# Altium integrated library NSC MiscPower.IntLib: 1417 symbols (part 23 of 39)
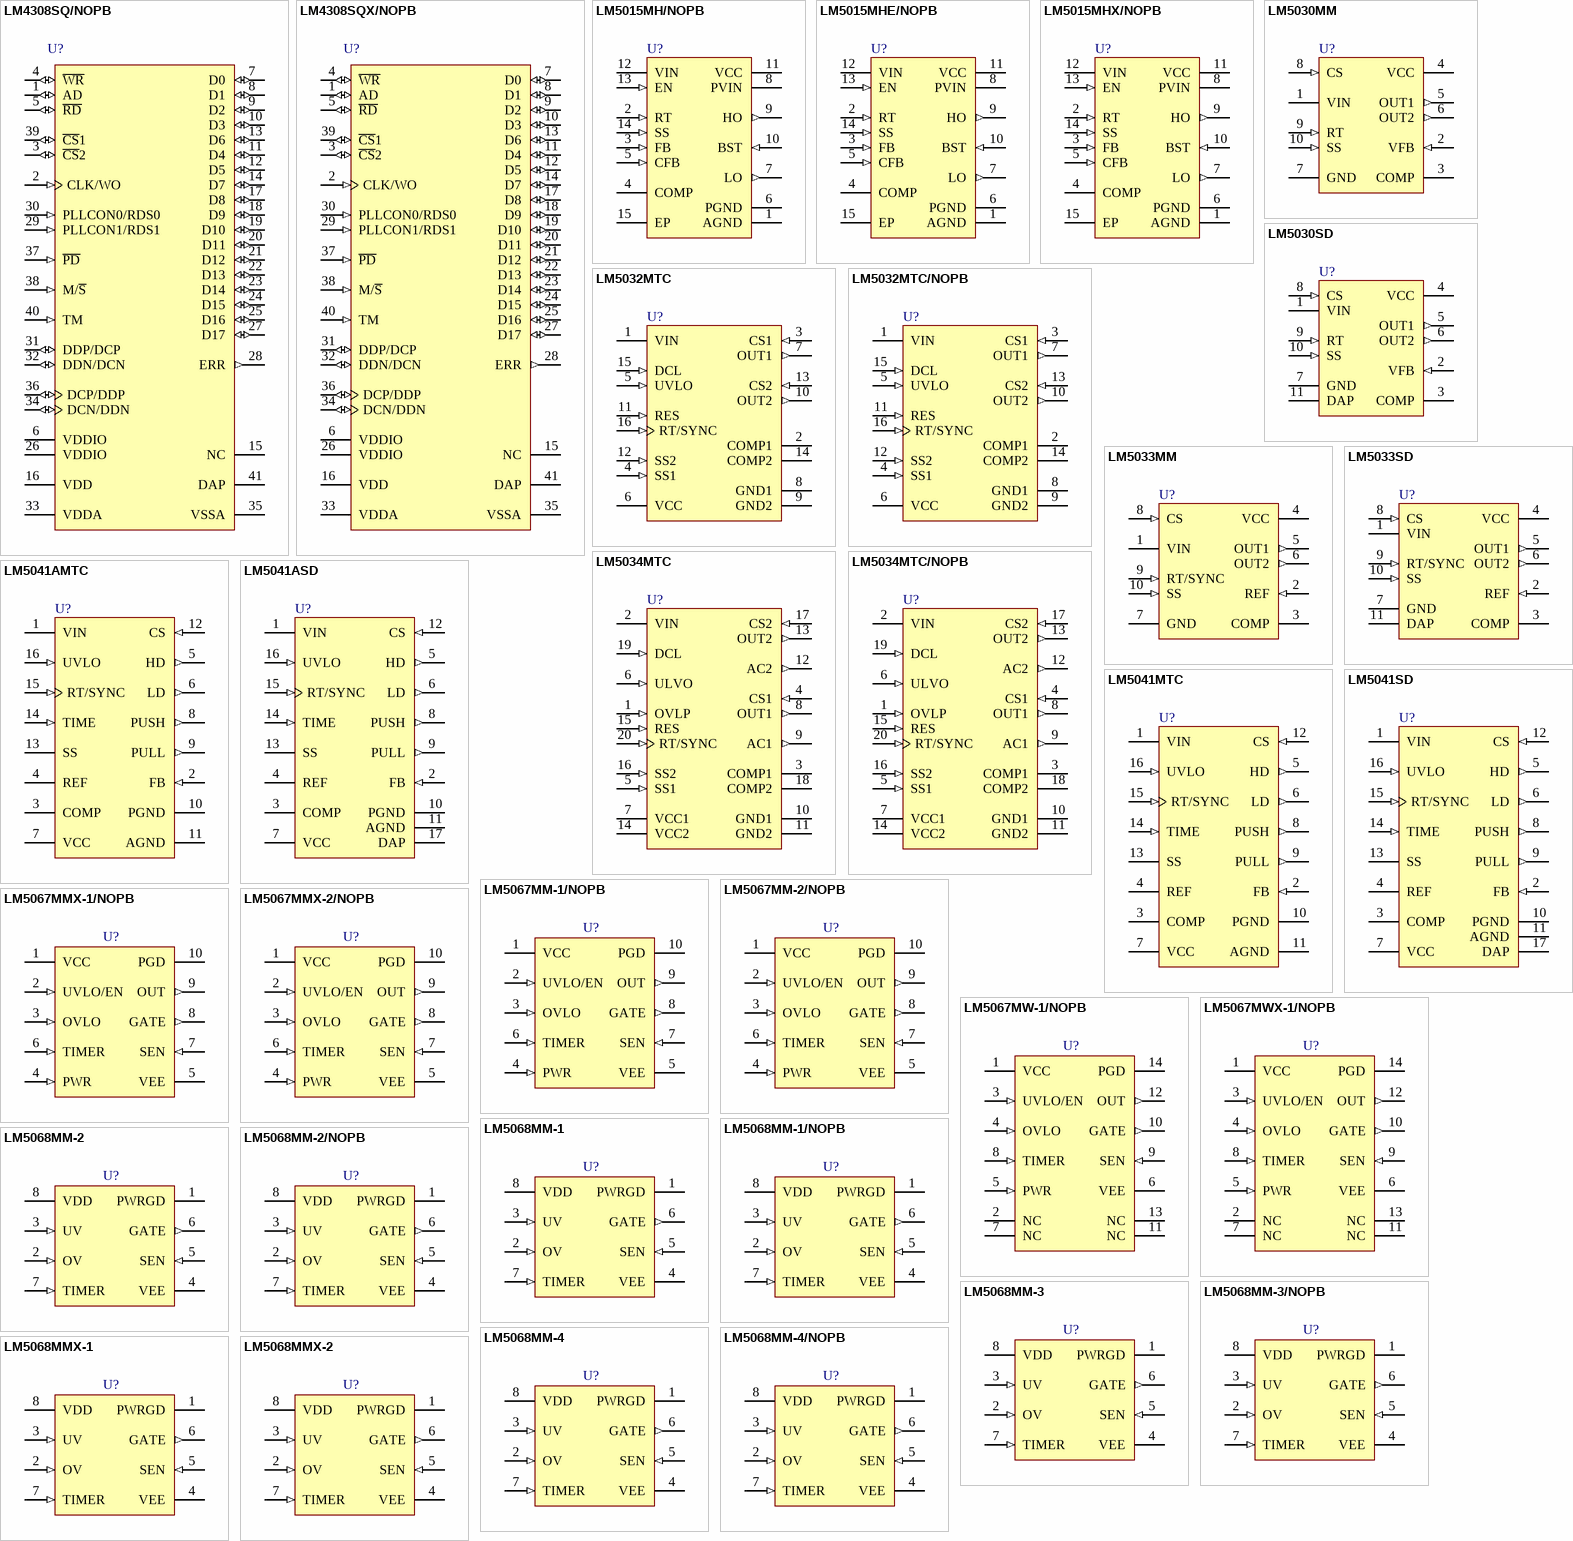
[diagram p73: symbols LM4308SQ/NOPB to LM5068MMX-2]

## LM5068MM-2
designator U?
Negative Voltage Hot Swap Controller, 8-pin MSOP; PartNumber: LM5068MM-2; Manufacturer: National Semiconductor; PackageTopMarking: ZXTT*S67B; PowerWise: N; CompType: MiscPower; Published: 4-Dec-2008; DatasheetVersion: Dec-2004; PackageVersion: revF, Apr-2008; PackageReference: MUA08A; Publisher: Altium Limited; PackageDescription: MINI SOIC, .118 x .118 x .034in, 8 Lead, .0256in Pitch; Supplier 1: Farnell; Supplier Part Number 1: 8181764; RoHS: N; PinCount: 8; Code_JEDEC: MO-187-AA; ComponentLink1Description: LM5068 Datasheet; ComponentLink1URL: http://www.national.com/ds/LM/LM5068.pdf; ComponentLink2Description: LM5068 Web Page; ComponentLink2URL: http://www.national.com/pf/LM/LM5068.html; ComponentLink3Description: MUA08A Package Page; ComponentLink3URL: http://www.national.com/packaging/folders/mua08a.html
footprint MUA08A_N (TSOP, 8-Leads, Body 3x3mm, Pitch 0.65mm, IPC Medium Density)
footprint MUA08A_L (TSOP, 8-Leads, Body 3x3mm, Pitch 0.65mm, IPC High Density)
footprint MUA08A_M (TSOP, 8-Leads, Body 3x3mm, Pitch 0.65mm, IPC Low Density)
pins: 1 PWRGD (oc), 2 OV (in), 3 UV (in), 4 VEE (power), 5 SEN (in), 6 GATE (out), 7 TIMER (in), 8 VDD (power)

## LM5068MM-2/NOPB
designator U?
Negative Voltage Hot Swap Controller, 8-pin MSOP, Pb-Free; PartNumber: LM5068MM-2/NOPB; Manufacturer: National Semiconductor; PackageTopMarking: ZXTT*S67B; PowerWise: N; CompType: MiscPower; Published: 1-Mar-2010; DatasheetVersion: Dec-2004; PackageVersion: revF, Apr-2008; PackageReference: MUA08A; Publisher: Altium Limited; PackageDescription: MINI SOIC, .118 x .118 x .034in, 8 Lead, .0256in Pitch; Supplier 1: Digi-Key; Supplier Part Number 1: LM5068MM-2TR-ND; Supplier 2: Digi-Key; Supplier Part Number 2: LM5068MM-2CT-ND; Supplier 3: Digi-Key; Supplier Part Number 3: LM5068MM-2DKR-ND; RoHS: Y; PinCount: 8; Code_JEDEC: MO-187-AA; ComponentLink1Description: LM5068 Datasheet; ComponentLink1URL: http://www.national.com/ds/LM/LM5068.pdf; ComponentLink2Description: LM5068 Web Page; ComponentLink2URL: http://www.national.com/pf/LM/LM5068.html; ComponentLink3Description: MUA08A Package Page; ComponentLink3URL: http://www.national.com/packaging/folders/mua08a.html
footprint MUA08A_N (TSOP, 8-Leads, Body 3x3mm, Pitch 0.65mm, IPC Medium Density)
footprint MUA08A_L (TSOP, 8-Leads, Body 3x3mm, Pitch 0.65mm, IPC High Density)
footprint MUA08A_M (TSOP, 8-Leads, Body 3x3mm, Pitch 0.65mm, IPC Low Density)
pins: 1 PWRGD (oc), 2 OV (in), 3 UV (in), 4 VEE (power), 5 SEN (in), 6 GATE (out), 7 TIMER (in), 8 VDD (power)

## LM5068MM-3
designator U?
Negative Voltage Hot Swap Controller, 8-pin MSOP; PartNumber: LM5068MM-3; Manufacturer: National Semiconductor; PackageTopMarking: ZXTT*S68B; PowerWise: N; CompType: MiscPower; Published: 4-Dec-2008; DatasheetVersion: Dec-2004; PackageVersion: revF, Apr-2008; PackageReference: MUA08A; Publisher: Altium Limited; PackageDescription: MINI SOIC, .118 x .118 x .034in, 8 Lead, .0256in Pitch; Supplier 1: Farnell; Supplier Part Number 1: 1008261; RoHS: N; PinCount: 8; Code_JEDEC: MO-187-AA; ComponentLink1Description: LM5068 Datasheet; ComponentLink1URL: http://www.national.com/ds/LM/LM5068.pdf; ComponentLink2Description: LM5068 Web Page; ComponentLink2URL: http://www.national.com/pf/LM/LM5068.html; ComponentLink3Description: MUA08A Package Page; ComponentLink3URL: http://www.national.com/packaging/folders/mua08a.html
footprint MUA08A_N (TSOP, 8-Leads, Body 3x3mm, Pitch 0.65mm, IPC Medium Density)
footprint MUA08A_L (TSOP, 8-Leads, Body 3x3mm, Pitch 0.65mm, IPC High Density)
footprint MUA08A_M (TSOP, 8-Leads, Body 3x3mm, Pitch 0.65mm, IPC Low Density)
pins: 1 PWRGD (oc), 2 OV (in), 3 UV (in), 4 VEE (power), 5 SEN (in), 6 GATE (out), 7 TIMER (in), 8 VDD (power)

## LM5068MM-3/NOPB
designator U?
Negative Voltage Hot Swap Controller, 8-pin MSOP, Pb-Free; PartNumber: LM5068MM-3/NOPB; Manufacturer: National Semiconductor; PackageTopMarking: ZXTT*S68B; PowerWise: N; CompType: MiscPower; Published: 1-Mar-2010; DatasheetVersion: Dec-2004; PackageVersion: revF, Apr-2008; PackageReference: MUA08A; Publisher: Altium Limited; PackageDescription: MINI SOIC, .118 x .118 x .034in, 8 Lead, .0256in Pitch; Supplier 1: Digi-Key; Supplier Part Number 1: LM5068MM-3TR-ND; Supplier 2: Digi-Key; Supplier Part Number 2: LM5068MM-3CT-ND; Supplier 3: Digi-Key; Supplier Part Number 3: LM5068MM-3DKR-ND; RoHS: Y; PinCount: 8; Code_JEDEC: MO-187-AA; ComponentLink1Description: LM5068 Datasheet; ComponentLink1URL: http://www.national.com/ds/LM/LM5068.pdf; ComponentLink2Description: LM5068 Web Page; ComponentLink2URL: http://www.national.com/pf/LM/LM5068.html; ComponentLink3Description: MUA08A Package Page; ComponentLink3URL: http://www.national.com/packaging/folders/mua08a.html
footprint MUA08A_N (TSOP, 8-Leads, Body 3x3mm, Pitch 0.65mm, IPC Medium Density)
footprint MUA08A_L (TSOP, 8-Leads, Body 3x3mm, Pitch 0.65mm, IPC High Density)
footprint MUA08A_M (TSOP, 8-Leads, Body 3x3mm, Pitch 0.65mm, IPC Low Density)
pins: 1 PWRGD (oc), 2 OV (in), 3 UV (in), 4 VEE (power), 5 SEN (in), 6 GATE (out), 7 TIMER (in), 8 VDD (power)

## LM5068MM-4
designator U?
Negative Voltage Hot Swap Controller, 8-pin MSOP; PartNumber: LM5068MM-4; Manufacturer: National Semiconductor; PackageTopMarking: ZXTT*S69B; PowerWise: N; CompType: MiscPower; Published: 4-Dec-2008; DatasheetVersion: Dec-2004; PackageVersion: revF, Apr-2008; PackageReference: MUA08A; Publisher: Altium Limited; PackageDescription: MINI SOIC, .118 x .118 x .034in, 8 Lead, .0256in Pitch; Supplier 1: Farnell; Supplier Part Number 1: 1008263; RoHS: N; PinCount: 8; Code_JEDEC: MO-187-AA; ComponentLink1Description: LM5068 Datasheet; ComponentLink1URL: http://www.national.com/ds/LM/LM5068.pdf; ComponentLink2Description: LM5068 Web Page; ComponentLink2URL: http://www.national.com/pf/LM/LM5068.html; ComponentLink3Description: MUA08A Package Page; ComponentLink3URL: http://www.national.com/packaging/folders/mua08a.html
footprint MUA08A_N (TSOP, 8-Leads, Body 3x3mm, Pitch 0.65mm, IPC Medium Density)
footprint MUA08A_L (TSOP, 8-Leads, Body 3x3mm, Pitch 0.65mm, IPC High Density)
footprint MUA08A_M (TSOP, 8-Leads, Body 3x3mm, Pitch 0.65mm, IPC Low Density)
pins: 1 PWRGD (oc), 2 OV (in), 3 UV (in), 4 VEE (power), 5 SEN (in), 6 GATE (out), 7 TIMER (in), 8 VDD (power)

## LM5068MM-4/NOPB
designator U?
Negative Voltage Hot Swap Controller, 8-pin MSOP, Pb-Free; PartNumber: LM5068MM-4/NOPB; Manufacturer: National Semiconductor; PackageTopMarking: ZXTT*S69B; PowerWise: N; CompType: MiscPower; Published: 1-Mar-2010; DatasheetVersion: Dec-2004; PackageVersion: revF, Apr-2008; PackageReference: MUA08A; Publisher: Altium Limited; PackageDescription: MINI SOIC, .118 x .118 x .034in, 8 Lead, .0256in Pitch; Supplier 1: Digi-Key; Supplier Part Number 1: LM5068MM-4TR-ND; Supplier 2: Digi-Key; Supplier Part Number 2: LM5068MM-4CT-ND; Supplier 3: Digi-Key; Supplier Part Number 3: LM5068MM-4DKR-ND; RoHS: Y; PinCount: 8; Code_JEDEC: MO-187-AA; ComponentLink1Description: LM5068 Datasheet; ComponentLink1URL: http://www.national.com/ds/LM/LM5068.pdf; ComponentLink2Description: LM5068 Web Page; ComponentLink2URL: http://www.national.com/pf/LM/LM5068.html; ComponentLink3Description: MUA08A Package Page; ComponentLink3URL: http://www.national.com/packaging/folders/mua08a.html
footprint MUA08A_N (TSOP, 8-Leads, Body 3x3mm, Pitch 0.65mm, IPC Medium Density)
footprint MUA08A_L (TSOP, 8-Leads, Body 3x3mm, Pitch 0.65mm, IPC High Density)
footprint MUA08A_M (TSOP, 8-Leads, Body 3x3mm, Pitch 0.65mm, IPC Low Density)
pins: 1 PWRGD (oc), 2 OV (in), 3 UV (in), 4 VEE (power), 5 SEN (in), 6 GATE (out), 7 TIMER (in), 8 VDD (power)

## LM5068MMX-1
designator U?
Negative Voltage Hot Swap Controller, 8-pin MSOP; PartNumber: LM5068MMX-1; Manufacturer: National Semiconductor; PackageTopMarking: ZXTT*S66B; PowerWise: N; CompType: MiscPower; Published: 1-Mar-2010; DatasheetVersion: Dec-2004; PackageVersion: revF, Apr-2008; PackageReference: MUA08A; Publisher: Altium Limited; PackageDescription: MINI SOIC, .118 x .118 x .034in, 8 Lead, .0256in Pitch; RoHS: N; PinCount: 8; Code_JEDEC: MO-187-AA; ComponentLink1Description: LM5068 Datasheet; ComponentLink1URL: http://www.national.com/ds/LM/LM5068.pdf; ComponentLink2Description: LM5068 Web Page; ComponentLink2URL: http://www.national.com/pf/LM/LM5068.html; ComponentLink3Description: MUA08A Package Page; ComponentLink3URL: http://www.national.com/packaging/folders/mua08a.html
footprint MUA08A_N (TSOP, 8-Leads, Body 3x3mm, Pitch 0.65mm, IPC Medium Density)
footprint MUA08A_L (TSOP, 8-Leads, Body 3x3mm, Pitch 0.65mm, IPC High Density)
footprint MUA08A_M (TSOP, 8-Leads, Body 3x3mm, Pitch 0.65mm, IPC Low Density)
pins: 1 PWRGD (oc), 2 OV (in), 3 UV (in), 4 VEE (power), 5 SEN (in), 6 GATE (out), 7 TIMER (in), 8 VDD (power)

## LM5068MMX-2
designator U?
Negative Voltage Hot Swap Controller, 8-pin MSOP; PartNumber: LM5068MMX-2; Manufacturer: National Semiconductor; PackageTopMarking: ZXTT*S67B; PowerWise: N; CompType: MiscPower; Published: 1-Mar-2010; DatasheetVersion: Dec-2004; PackageVersion: revF, Apr-2008; PackageReference: MUA08A; Publisher: Altium Limited; PackageDescription: MINI SOIC, .118 x .118 x .034in, 8 Lead, .0256in Pitch; RoHS: N; PinCount: 8; Code_JEDEC: MO-187-AA; ComponentLink1Description: LM5068 Datasheet; ComponentLink1URL: http://www.national.com/ds/LM/LM5068.pdf; ComponentLink2Description: LM5068 Web Page; ComponentLink2URL: http://www.national.com/pf/LM/LM5068.html; ComponentLink3Description: MUA08A Package Page; ComponentLink3URL: http://www.national.com/packaging/folders/mua08a.html
footprint MUA08A_N (TSOP, 8-Leads, Body 3x3mm, Pitch 0.65mm, IPC Medium Density)
footprint MUA08A_L (TSOP, 8-Leads, Body 3x3mm, Pitch 0.65mm, IPC High Density)
footprint MUA08A_M (TSOP, 8-Leads, Body 3x3mm, Pitch 0.65mm, IPC Low Density)
pins: 1 PWRGD (oc), 2 OV (in), 3 UV (in), 4 VEE (power), 5 SEN (in), 6 GATE (out), 7 TIMER (in), 8 VDD (power)

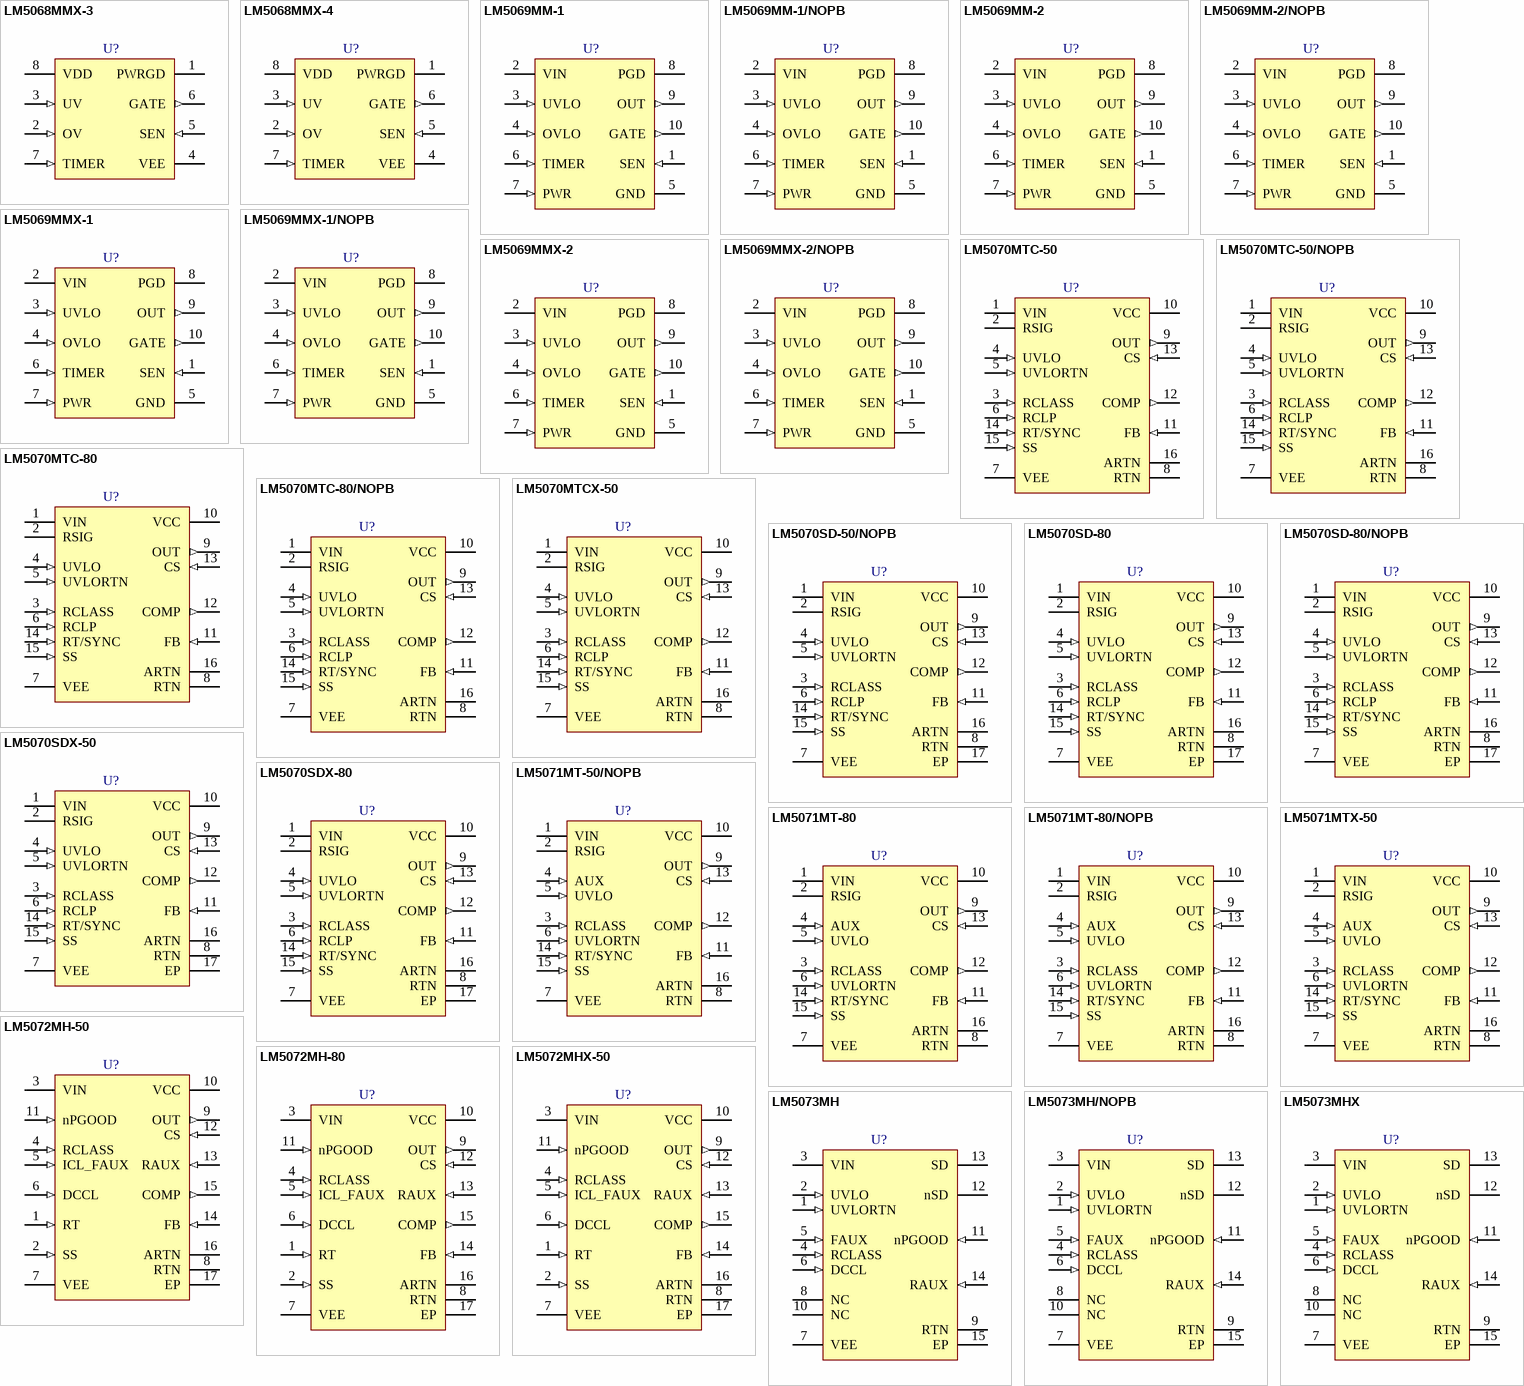
[diagram p25: symbols LM5068MMX-3 to LM5073MHX]

## LM5068MMX-3
designator U?
Negative Voltage Hot Swap Controller, 8-pin MSOP; PartNumber: LM5068MMX-3; Manufacturer: National Semiconductor; PackageTopMarking: ZXTT*S68B; PowerWise: N; CompType: MiscPower; Published: 1-Mar-2010; DatasheetVersion: Dec-2004; PackageVersion: revF, Apr-2008; PackageReference: MUA08A; Publisher: Altium Limited; PackageDescription: MINI SOIC, .118 x .118 x .034in, 8 Lead, .0256in Pitch; RoHS: N; PinCount: 8; Code_JEDEC: MO-187-AA; ComponentLink1Description: LM5068 Datasheet; ComponentLink1URL: http://www.national.com/ds/LM/LM5068.pdf; ComponentLink2Description: LM5068 Web Page; ComponentLink2URL: http://www.national.com/pf/LM/LM5068.html; ComponentLink3Description: MUA08A Package Page; ComponentLink3URL: http://www.national.com/packaging/folders/mua08a.html
footprint MUA08A_N (TSOP, 8-Leads, Body 3x3mm, Pitch 0.65mm, IPC Medium Density)
footprint MUA08A_L (TSOP, 8-Leads, Body 3x3mm, Pitch 0.65mm, IPC High Density)
footprint MUA08A_M (TSOP, 8-Leads, Body 3x3mm, Pitch 0.65mm, IPC Low Density)
pins: 1 PWRGD (oc), 2 OV (in), 3 UV (in), 4 VEE (power), 5 SEN (in), 6 GATE (out), 7 TIMER (in), 8 VDD (power)

## LM5068MMX-4
designator U?
Negative Voltage Hot Swap Controller, 8-pin MSOP; PartNumber: LM5068MMX-4; Manufacturer: National Semiconductor; PackageTopMarking: ZXTT*S69B; PowerWise: N; CompType: MiscPower; Published: 1-Mar-2010; DatasheetVersion: Dec-2004; PackageVersion: revF, Apr-2008; PackageReference: MUA08A; Publisher: Altium Limited; PackageDescription: MINI SOIC, .118 x .118 x .034in, 8 Lead, .0256in Pitch; RoHS: N; PinCount: 8; Code_JEDEC: MO-187-AA; ComponentLink1Description: LM5068 Datasheet; ComponentLink1URL: http://www.national.com/ds/LM/LM5068.pdf; ComponentLink2Description: LM5068 Web Page; ComponentLink2URL: http://www.national.com/pf/LM/LM5068.html; ComponentLink3Description: MUA08A Package Page; ComponentLink3URL: http://www.national.com/packaging/folders/mua08a.html
footprint MUA08A_N (TSOP, 8-Leads, Body 3x3mm, Pitch 0.65mm, IPC Medium Density)
footprint MUA08A_L (TSOP, 8-Leads, Body 3x3mm, Pitch 0.65mm, IPC High Density)
footprint MUA08A_M (TSOP, 8-Leads, Body 3x3mm, Pitch 0.65mm, IPC Low Density)
pins: 1 PWRGD (oc), 2 OV (in), 3 UV (in), 4 VEE (power), 5 SEN (in), 6 GATE (out), 7 TIMER (in), 8 VDD (power)

## LM5069MM-1
designator U?
Positive High Voltage Hot Swap / Inrush Current Controller with Power Limiting, 10-pin MSOP; PartNumber: LM5069MM-1; Manufacturer: National Semiconductor; PackageTopMarking: ZXTT*SNAB; PowerWise: N; CompType: MiscPower; Published: 4-Dec-2008; DatasheetVersion: Mar-2008; PackageVersion: revB, Jul-2003; PackageReference: MUB10A; Publisher: Altium Limited; PackageDescription: Mini-SO, Molded, .118 x .118 x .034in Body, 10 Lead, .0197in Pitch; Supplier 1: Farnell; Supplier Part Number 1: 1290932; RoHS: N; PinCount: 10; Code_JEDEC: MO-187-BA; ComponentLink1Description: LM5069 Datasheet; ComponentLink1URL: http://www.national.com/ds/LM/LM5069.pdf; ComponentLink2Description: LM5069 Web Page; ComponentLink2URL: http://www.national.com/pf/LM/LM5069.html; ComponentLink3Description: MUB10A Package Page; ComponentLink3URL: http://www.national.com/packaging/folders/mub10a.html
footprint MUB10A_N (TSSOP, 10-Leads, Body 3x3mm, Pitch 0.5mm, IPC Medium Density)
footprint MUB10A_L (TSSOP, 10-Leads, Body 3x3mm, Pitch 0.5mm, IPC High Density)
footprint MUB10A_M (TSSOP, 10-Leads, Body 3x3mm, Pitch 0.5mm, IPC Low Density)
pins: 1 SEN (in), 2 VIN (power), 3 UVLO (in), 4 OVLO (in), 5 GND (power), 6 TIMER (in), 7 PWR (in), 8 PGD (oc), 9 OUT (out), 10 GATE (out)

## LM5069MM-1/NOPB
designator U?
Positive High Voltage Hot Swap / Inrush Current Controller with Power Limiting, 10-pin MSOP, Pb-Free; PartNumber: LM5069MM-1/NOPB; Manufacturer: National Semiconductor; PackageTopMarking: ZXTT*SNAB; PowerWise: N; CompType: MiscPower; Published: 1-Mar-2010; DatasheetVersion: Mar-2008; PackageVersion: revB, Jul-2003; PackageReference: MUB10A; Publisher: Altium Limited; PackageDescription: Mini-SO, Molded, .118 x .118 x .034in Body, 10 Lead, .0197in Pitch; Supplier 1: Digi-Key; Supplier Part Number 1: LM5069MM-1TR-ND; Supplier 2: Digi-Key; Supplier Part Number 2: LM5069MM-1CT-ND; Supplier 3: Digi-Key; Supplier Part Number 3: LM5069MM-1DKR-ND; RoHS: Y; PinCount: 10; Code_JEDEC: MO-187-BA; ComponentLink1Description: LM5069 Datasheet; ComponentLink1URL: http://www.national.com/ds/LM/LM5069.pdf; ComponentLink2Description: LM5069 Web Page; ComponentLink2URL: http://www.national.com/pf/LM/LM5069.html; ComponentLink3Description: MUB10A Package Page; ComponentLink3URL: http://www.national.com/packaging/folders/mub10a.html
footprint MUB10A_N (TSSOP, 10-Leads, Body 3x3mm, Pitch 0.5mm, IPC Medium Density)
footprint MUB10A_L (TSSOP, 10-Leads, Body 3x3mm, Pitch 0.5mm, IPC High Density)
footprint MUB10A_M (TSSOP, 10-Leads, Body 3x3mm, Pitch 0.5mm, IPC Low Density)
pins: 1 SEN (in), 2 VIN (power), 3 UVLO (in), 4 OVLO (in), 5 GND (power), 6 TIMER (in), 7 PWR (in), 8 PGD (oc), 9 OUT (out), 10 GATE (out)

## LM5069MM-2
designator U?
Positive High Voltage Hot Swap / Inrush Current Controller with Power Limiting, 10-pin MSOP; PartNumber: LM5069MM-2; Manufacturer: National Semiconductor; PackageTopMarking: ZXTT*SNBB; PowerWise: N; CompType: MiscPower; Published: 4-Dec-2008; DatasheetVersion: Mar-2008; PackageVersion: revB, Jul-2003; PackageReference: MUB10A; Publisher: Altium Limited; PackageDescription: Mini-SO, Molded, .118 x .118 x .034in Body, 10 Lead, .0197in Pitch; Supplier 1: Farnell; Supplier Part Number 1: 1290933; RoHS: N; PinCount: 10; Code_JEDEC: MO-187-BA; ComponentLink1Description: LM5069 Datasheet; ComponentLink1URL: http://www.national.com/ds/LM/LM5069.pdf; ComponentLink2Description: LM5069 Web Page; ComponentLink2URL: http://www.national.com/pf/LM/LM5069.html; ComponentLink3Description: MUB10A Package Page; ComponentLink3URL: http://www.national.com/packaging/folders/mub10a.html
footprint MUB10A_N (TSSOP, 10-Leads, Body 3x3mm, Pitch 0.5mm, IPC Medium Density)
footprint MUB10A_L (TSSOP, 10-Leads, Body 3x3mm, Pitch 0.5mm, IPC High Density)
footprint MUB10A_M (TSSOP, 10-Leads, Body 3x3mm, Pitch 0.5mm, IPC Low Density)
pins: 1 SEN (in), 2 VIN (power), 3 UVLO (in), 4 OVLO (in), 5 GND (power), 6 TIMER (in), 7 PWR (in), 8 PGD (oc), 9 OUT (out), 10 GATE (out)

## LM5069MM-2/NOPB
designator U?
Positive High Voltage Hot Swap / Inrush Current Controller with Power Limiting, 10-pin MSOP, Pb-Free; PartNumber: LM5069MM-2/NOPB; Manufacturer: National Semiconductor; PackageTopMarking: ZXTT*SNBB; PowerWise: N; CompType: MiscPower; Published: 1-Mar-2010; DatasheetVersion: Mar-2008; PackageVersion: revB, Jul-2003; PackageReference: MUB10A; Publisher: Altium Limited; PackageDescription: Mini-SO, Molded, .118 x .118 x .034in Body, 10 Lead, .0197in Pitch; Supplier 1: Digi-Key; Supplier Part Number 1: LM5069MM-2TR-ND; Supplier 2: Digi-Key; Supplier Part Number 2: LM5069MM-2CT-ND; Supplier 3: Digi-Key; Supplier Part Number 3: LM5069MM-2DKR-ND; Supplier 4: Farnell; Supplier Part Number 4: 1654265; RoHS: Y; PinCount: 10; Code_JEDEC: MO-187-BA; ComponentLink1Description: LM5069 Datasheet; ComponentLink1URL: http://www.national.com/ds/LM/LM5069.pdf; ComponentLink2Description: LM5069 Web Page; ComponentLink2URL: http://www.national.com/pf/LM/LM5069.html; ComponentLink3Description: MUB10A Package Page; ComponentLink3URL: http://www.national.com/packaging/folders/mub10a.html
footprint MUB10A_N (TSSOP, 10-Leads, Body 3x3mm, Pitch 0.5mm, IPC Medium Density)
footprint MUB10A_L (TSSOP, 10-Leads, Body 3x3mm, Pitch 0.5mm, IPC High Density)
footprint MUB10A_M (TSSOP, 10-Leads, Body 3x3mm, Pitch 0.5mm, IPC Low Density)
pins: 1 SEN (in), 2 VIN (power), 3 UVLO (in), 4 OVLO (in), 5 GND (power), 6 TIMER (in), 7 PWR (in), 8 PGD (oc), 9 OUT (out), 10 GATE (out)

## LM5069MMX-1
designator U?
Positive High Voltage Hot Swap / Inrush Current Controller with Power Limiting, 10-pin MSOP; PartNumber: LM5069MMX-1; Manufacturer: National Semiconductor; PackageTopMarking: ZXTT*SNAB; PowerWise: N; CompType: MiscPower; Published: 1-Mar-2010; DatasheetVersion: Mar-2008; PackageVersion: revB, Jul-2003; PackageReference: MUB10A; Publisher: Altium Limited; PackageDescription: Mini-SO, Molded, .118 x .118 x .034in Body, 10 Lead, .0197in Pitch; RoHS: N; PinCount: 10; Code_JEDEC: MO-187-BA; ComponentLink1Description: LM5069 Datasheet; ComponentLink1URL: http://www.national.com/ds/LM/LM5069.pdf; ComponentLink2Description: LM5069 Web Page; ComponentLink2URL: http://www.national.com/pf/LM/LM5069.html; ComponentLink3Description: MUB10A Package Page; ComponentLink3URL: http://www.national.com/packaging/folders/mub10a.html
footprint MUB10A_N (TSSOP, 10-Leads, Body 3x3mm, Pitch 0.5mm, IPC Medium Density)
footprint MUB10A_L (TSSOP, 10-Leads, Body 3x3mm, Pitch 0.5mm, IPC High Density)
footprint MUB10A_M (TSSOP, 10-Leads, Body 3x3mm, Pitch 0.5mm, IPC Low Density)
pins: 1 SEN (in), 2 VIN (power), 3 UVLO (in), 4 OVLO (in), 5 GND (power), 6 TIMER (in), 7 PWR (in), 8 PGD (oc), 9 OUT (out), 10 GATE (out)

## LM5069MMX-1/NOPB
designator U?
Positive High Voltage Hot Swap / Inrush Current Controller with Power Limiting, 10-pin MSOP, Pb-Free; PartNumber: LM5069MMX-1/NOPB; Manufacturer: National Semiconductor; PackageTopMarking: ZXTT*SNAB; PowerWise: N; CompType: MiscPower; Published: 1-Mar-2010; DatasheetVersion: Mar-2008; PackageVersion: revB, Jul-2003; PackageReference: MUB10A; Publisher: Altium Limited; PackageDescription: Mini-SO, Molded, .118 x .118 x .034in Body, 10 Lead, .0197in Pitch; Supplier 1: Digi-Key; Supplier Part Number 1: LM5069MMX-1-ND; RoHS: Y; PinCount: 10; Code_JEDEC: MO-187-BA; ComponentLink1Description: LM5069 Datasheet; ComponentLink1URL: http://www.national.com/ds/LM/LM5069.pdf; ComponentLink2Description: LM5069 Web Page; ComponentLink2URL: http://www.national.com/pf/LM/LM5069.html; ComponentLink3Description: MUB10A Package Page; ComponentLink3URL: http://www.national.com/packaging/folders/mub10a.html
footprint MUB10A_N (TSSOP, 10-Leads, Body 3x3mm, Pitch 0.5mm, IPC Medium Density)
footprint MUB10A_L (TSSOP, 10-Leads, Body 3x3mm, Pitch 0.5mm, IPC High Density)
footprint MUB10A_M (TSSOP, 10-Leads, Body 3x3mm, Pitch 0.5mm, IPC Low Density)
pins: 1 SEN (in), 2 VIN (power), 3 UVLO (in), 4 OVLO (in), 5 GND (power), 6 TIMER (in), 7 PWR (in), 8 PGD (oc), 9 OUT (out), 10 GATE (out)

## LM5069MMX-2
designator U?
Positive High Voltage Hot Swap / Inrush Current Controller with Power Limiting, 10-pin MSOP; PartNumber: LM5069MMX-2; Manufacturer: National Semiconductor; PackageTopMarking: ZXTT*SNBB; PowerWise: N; CompType: MiscPower; Published: 1-Mar-2010; DatasheetVersion: Mar-2008; PackageVersion: revB, Jul-2003; PackageReference: MUB10A; Publisher: Altium Limited; PackageDescription: Mini-SO, Molded, .118 x .118 x .034in Body, 10 Lead, .0197in Pitch; RoHS: N; PinCount: 10; Code_JEDEC: MO-187-BA; ComponentLink1Description: LM5069 Datasheet; ComponentLink1URL: http://www.national.com/ds/LM/LM5069.pdf; ComponentLink2Description: LM5069 Web Page; ComponentLink2URL: http://www.national.com/pf/LM/LM5069.html; ComponentLink3Description: MUB10A Package Page; ComponentLink3URL: http://www.national.com/packaging/folders/mub10a.html
footprint MUB10A_N (TSSOP, 10-Leads, Body 3x3mm, Pitch 0.5mm, IPC Medium Density)
footprint MUB10A_L (TSSOP, 10-Leads, Body 3x3mm, Pitch 0.5mm, IPC High Density)
footprint MUB10A_M (TSSOP, 10-Leads, Body 3x3mm, Pitch 0.5mm, IPC Low Density)
pins: 1 SEN (in), 2 VIN (power), 3 UVLO (in), 4 OVLO (in), 5 GND (power), 6 TIMER (in), 7 PWR (in), 8 PGD (oc), 9 OUT (out), 10 GATE (out)

## LM5069MMX-2/NOPB
designator U?
Positive High Voltage Hot Swap / Inrush Current Controller with Power Limiting, 10-pin MSOP, Pb-Free; PartNumber: LM5069MMX-2/NOPB; Manufacturer: National Semiconductor; PackageTopMarking: ZXTT*SNBB; PowerWise: N; CompType: MiscPower; Published: 1-Mar-2010; DatasheetVersion: Mar-2008; PackageVersion: revB, Jul-2003; PackageReference: MUB10A; Publisher: Altium Limited; PackageDescription: Mini-SO, Molded, .118 x .118 x .034in Body, 10 Lead, .0197in Pitch; Supplier 1: Digi-Key; Supplier Part Number 1: LM5069MMX-2-ND; RoHS: Y; PinCount: 10; Code_JEDEC: MO-187-BA; ComponentLink1Description: LM5069 Datasheet; ComponentLink1URL: http://www.national.com/ds/LM/LM5069.pdf; ComponentLink2Description: LM5069 Web Page; ComponentLink2URL: http://www.national.com/pf/LM/LM5069.html; ComponentLink3Description: MUB10A Package Page; ComponentLink3URL: http://www.national.com/packaging/folders/mub10a.html
footprint MUB10A_N (TSSOP, 10-Leads, Body 3x3mm, Pitch 0.5mm, IPC Medium Density)
footprint MUB10A_L (TSSOP, 10-Leads, Body 3x3mm, Pitch 0.5mm, IPC High Density)
footprint MUB10A_M (TSSOP, 10-Leads, Body 3x3mm, Pitch 0.5mm, IPC Low Density)
pins: 1 SEN (in), 2 VIN (power), 3 UVLO (in), 4 OVLO (in), 5 GND (power), 6 TIMER (in), 7 PWR (in), 8 PGD (oc), 9 OUT (out), 10 GATE (out)

## LM5070MTC-50
designator U?
Integrated Power Over Ethernet PD Interface and PWM Controller, 16-pin TSSOP; PartNumber: LM5070MTC-50; Manufacturer: National Semiconductor; PackageTopMarking: NSUZXYTT*5070M*TC-50; PowerWise: Y; CompType: MiscPower; Published: 4-Dec-2008; DatasheetVersion: Apr-2006; PackageVersion: revD, Jun-2003; PackageReference: MTC16; Publisher: Altium Limited; PackageDescription: Molded TSSOP, Jedec, 5 x 4.4 x 0.9mm Body, 16 Lead, 0.65mm Pitch; Supplier 1: Farnell; Supplier Part Number 1: 9123520; RoHS: N; PinCount: 16; Code_JEDEC: MO-153-AB; ComponentLink1Description: LM5070 Datasheet; ComponentLink1URL: http://www.national.com/ds/LM/LM5070.pdf; ComponentLink2Description: LM5070 Web Page; ComponentLink2URL: http://www.national.com/pf/LM/LM5070.html; ComponentLink3Description: MTC16 Package Page; ComponentLink3URL: http://www.national.com/packaging/folders/mtc16.html
footprint MTC16_N (TSOP, 16-Leads, Body 5x4.4mm, Pitch 0.65mm, IPC Medium Density)
footprint MTC16_L (TSOP, 16-Leads, Body 5x4.4mm, Pitch 0.65mm, IPC High Density)
footprint MTC16_M (TSOP, 16-Leads, Body 5x4.4mm, Pitch 0.65mm, IPC Low Density)
pins: 1 VIN (power) "System high potential input.", 2 RSIG "Signature resistor pin.", 3 RCLASS (in) "Classification resistor pin.", 4 UVLO (in) "Line under-voltage lockout.", 5 UVLORTN (in) "Return for the external UVLO resistors.", 6 RCLP (in) "Current limit programming pin.", 7 VEE (power) "System low potential input.", 8 RTN (power) "System return for the PWM converter.", 9 OUT (out) "Output of the PWM controller.", 10 VCC (power) "Output of the internal high voltage series pass regulator. Regulated output voltage is nominally 7.8V.", 11 FB (in) "Feedback signal.", 12 COMP (out) "The output of the error amplifier and input to the Pulse Width Modulator.", 13 CS (in) "Current sense input.", 14 RT/SYNC (in) "Oscillator timing resistor pin and synchronization input.", 15 SS (in) "Soft-start input.", 16 ARTN (power) "Analog PWM supply return."

## LM5070MTC-50/NOPB
designator U?
Integrated Power Over Ethernet PD Interface and PWM Controller, 16-pin TSSOP, Pb-Free; PartNumber: LM5070MTC-50/NOPB; Manufacturer: National Semiconductor; PackageTopMarking: NSUZXYTT*5070M*TC-50; PowerWise: Y; CompType: MiscPower; Published: 1-Mar-2010; DatasheetVersion: Apr-2006; PackageVersion: revD, Jun-2003; PackageReference: MTC16; Publisher: Altium Limited; PackageDescription: Molded TSSOP, Jedec, 5 x 4.4 x 0.9mm Body, 16 Lead, 0.65mm Pitch; Supplier 1: Digi-Key; Supplier Part Number 1: LM5070MTC-50-ND; Supplier 2: Farnell; Supplier Part Number 2: 1559511; RoHS: Y; PinCount: 16; Code_JEDEC: MO-153-AB; ComponentLink1Description: LM5070 Datasheet; ComponentLink1URL: http://www.national.com/ds/LM/LM5070.pdf; ComponentLink2Description: LM5070 Web Page; ComponentLink2URL: http://www.national.com/pf/LM/LM5070.html; ComponentLink3Description: MTC16 Package Page; ComponentLink3URL: http://www.national.com/packaging/folders/mtc16.html
footprint MTC16_N (TSOP, 16-Leads, Body 5x4.4mm, Pitch 0.65mm, IPC Medium Density)
footprint MTC16_L (TSOP, 16-Leads, Body 5x4.4mm, Pitch 0.65mm, IPC High Density)
footprint MTC16_M (TSOP, 16-Leads, Body 5x4.4mm, Pitch 0.65mm, IPC Low Density)
pins: 1 VIN (power) "System high potential input.", 2 RSIG "Signature resistor pin.", 3 RCLASS (in) "Classification resistor pin.", 4 UVLO (in) "Line under-voltage lockout.", 5 UVLORTN (in) "Return for the external UVLO resistors.", 6 RCLP (in) "Current limit programming pin.", 7 VEE (power) "System low potential input.", 8 RTN (power) "System return for the PWM converter.", 9 OUT (out) "Output of the PWM controller.", 10 VCC (power) "Output of the internal high voltage series pass regulator. Regulated output voltage is nominally 7.8V.", 11 FB (in) "Feedback signal.", 12 COMP (out) "The output of the error amplifier and input to the Pulse Width Modulator.", 13 CS (in) "Current sense input.", 14 RT/SYNC (in) "Oscillator timing resistor pin and synchronization input.", 15 SS (in) "Soft-start input.", 16 ARTN (power) "Analog PWM supply return."

## LM5070MTC-80
designator U?
Integrated Power Over Ethernet PD Interface and PWM Controller, 16-pin TSSOP; PartNumber: LM5070MTC-80; Manufacturer: National Semiconductor; PackageTopMarking: NSUZXYTT*5070M*TC-80; PowerWise: Y; CompType: MiscPower; Published: 4-Dec-2008; DatasheetVersion: Apr-2006; PackageVersion: revD, Jun-2003; PackageReference: MTC16; Publisher: Altium Limited; PackageDescription: Molded TSSOP, Jedec, 5 x 4.4 x 0.9mm Body, 16 Lead, 0.65mm Pitch; Supplier 1: Farnell; Supplier Part Number 1: 9123539; RoHS: N; PinCount: 16; Code_JEDEC: MO-153-AB; ComponentLink1Description: LM5070 Datasheet; ComponentLink1URL: http://www.national.com/ds/LM/LM5070.pdf; ComponentLink2Description: LM5070 Web Page; ComponentLink2URL: http://www.national.com/pf/LM/LM5070.html; ComponentLink3Description: MTC16 Package Page; ComponentLink3URL: http://www.national.com/packaging/folders/mtc16.html
footprint MTC16_N (TSOP, 16-Leads, Body 5x4.4mm, Pitch 0.65mm, IPC Medium Density)
footprint MTC16_L (TSOP, 16-Leads, Body 5x4.4mm, Pitch 0.65mm, IPC High Density)
footprint MTC16_M (TSOP, 16-Leads, Body 5x4.4mm, Pitch 0.65mm, IPC Low Density)
pins: 1 VIN (power) "System high potential input.", 2 RSIG "Signature resistor pin.", 3 RCLASS (in) "Classification resistor pin.", 4 UVLO (in) "Line under-voltage lockout.", 5 UVLORTN (in) "Return for the external UVLO resistors.", 6 RCLP (in) "Current limit programming pin.", 7 VEE (power) "System low potential input.", 8 RTN (power) "System return for the PWM converter.", 9 OUT (out) "Output of the PWM controller.", 10 VCC (power) "Output of the internal high voltage series pass regulator. Regulated output voltage is nominally 7.8V.", 11 FB (in) "Feedback signal.", 12 COMP (out) "The output of the error amplifier and input to the Pulse Width Modulator.", 13 CS (in) "Current sense input.", 14 RT/SYNC (in) "Oscillator timing resistor pin and synchronization input.", 15 SS (in) "Soft-start input.", 16 ARTN (power) "Analog PWM supply return."

## LM5070MTC-80/NOPB
designator U?
Integrated Power Over Ethernet PD Interface and PWM Controller, 16-pin TSSOP, Pb-Free; PartNumber: LM5070MTC-80/NOPB; Manufacturer: National Semiconductor; PackageTopMarking: NSUZXYTT*5070M*TC-80; PowerWise: Y; CompType: MiscPower; Published: 1-Mar-2010; DatasheetVersion: Apr-2006; PackageVersion: revD, Jun-2003; PackageReference: MTC16; Publisher: Altium Limited; PackageDescription: Molded TSSOP, Jedec, 5 x 4.4 x 0.9mm Body, 16 Lead, 0.65mm Pitch; Supplier 1: Digi-Key; Supplier Part Number 1: LM5070MTC-80-ND; Supplier 2: Farnell; Supplier Part Number 2: 1685659; RoHS: Y; PinCount: 16; Code_JEDEC: MO-153-AB; ComponentLink1Description: LM5070 Datasheet; ComponentLink1URL: http://www.national.com/ds/LM/LM5070.pdf; ComponentLink2Description: LM5070 Web Page; ComponentLink2URL: http://www.national.com/pf/LM/LM5070.html; ComponentLink3Description: MTC16 Package Page; ComponentLink3URL: http://www.national.com/packaging/folders/mtc16.html
footprint MTC16_N (TSOP, 16-Leads, Body 5x4.4mm, Pitch 0.65mm, IPC Medium Density)
footprint MTC16_L (TSOP, 16-Leads, Body 5x4.4mm, Pitch 0.65mm, IPC High Density)
footprint MTC16_M (TSOP, 16-Leads, Body 5x4.4mm, Pitch 0.65mm, IPC Low Density)
pins: 1 VIN (power) "System high potential input.", 2 RSIG "Signature resistor pin.", 3 RCLASS (in) "Classification resistor pin.", 4 UVLO (in) "Line under-voltage lockout.", 5 UVLORTN (in) "Return for the external UVLO resistors.", 6 RCLP (in) "Current limit programming pin.", 7 VEE (power) "System low potential input.", 8 RTN (power) "System return for the PWM converter.", 9 OUT (out) "Output of the PWM controller.", 10 VCC (power) "Output of the internal high voltage series pass regulator. Regulated output voltage is nominally 7.8V.", 11 FB (in) "Feedback signal.", 12 COMP (out) "The output of the error amplifier and input to the Pulse Width Modulator.", 13 CS (in) "Current sense input.", 14 RT/SYNC (in) "Oscillator timing resistor pin and synchronization input.", 15 SS (in) "Soft-start input.", 16 ARTN (power) "Analog PWM supply return."

## LM5070MTCX-50
designator U?
Integrated Power Over Ethernet PD Interface and PWM Controller, 16-pin TSSOP; PartNumber: LM5070MTCX-50; Manufacturer: National Semiconductor; PackageTopMarking: NSUZXYTT*5070M*TC-50; PowerWise: Y; CompType: MiscPower; Published: 1-Mar-2010; DatasheetVersion: Apr-2006; PackageVersion: revD, Jun-2003; PackageReference: MTC16; Publisher: Altium Limited; PackageDescription: Molded TSSOP, Jedec, 5 x 4.4 x 0.9mm Body, 16 Lead, 0.65mm Pitch; RoHS: N; PinCount: 16; Code_JEDEC: MO-153-AB; ComponentLink1Description: LM5070 Datasheet; ComponentLink1URL: http://www.national.com/ds/LM/LM5070.pdf; ComponentLink2Description: LM5070 Web Page; ComponentLink2URL: http://www.national.com/pf/LM/LM5070.html; ComponentLink3Description: MTC16 Package Page; ComponentLink3URL: http://www.national.com/packaging/folders/mtc16.html
footprint MTC16_N (TSOP, 16-Leads, Body 5x4.4mm, Pitch 0.65mm, IPC Medium Density)
footprint MTC16_L (TSOP, 16-Leads, Body 5x4.4mm, Pitch 0.65mm, IPC High Density)
footprint MTC16_M (TSOP, 16-Leads, Body 5x4.4mm, Pitch 0.65mm, IPC Low Density)
pins: 1 VIN (power) "System high potential input.", 2 RSIG "Signature resistor pin.", 3 RCLASS (in) "Classification resistor pin.", 4 UVLO (in) "Line under-voltage lockout.", 5 UVLORTN (in) "Return for the external UVLO resistors.", 6 RCLP (in) "Current limit programming pin.", 7 VEE (power) "System low potential input.", 8 RTN (power) "System return for the PWM converter.", 9 OUT (out) "Output of the PWM controller.", 10 VCC (power) "Output of the internal high voltage series pass regulator. Regulated output voltage is nominally 7.8V.", 11 FB (in) "Feedback signal.", 12 COMP (out) "The output of the error amplifier and input to the Pulse Width Modulator.", 13 CS (in) "Current sense input.", 14 RT/SYNC (in) "Oscillator timing resistor pin and synchronization input.", 15 SS (in) "Soft-start input.", 16 ARTN (power) "Analog PWM supply return."

## LM5070SD-50/NOPB
designator U?
Integrated Power Over Ethernet PD Interface and PWM Controller, 16-pin LLP, Pb-Free; PartNumber: LM5070SD-50/NOPB; Manufacturer: National Semiconductor; PackageTopMarking: NS*UZXYTT*L00051B; PowerWise: Y; CompType: MiscPower; Published: 1-Mar-2010; DatasheetVersion: Apr-2006; PackageVersion: revA, May-2003; PackageReference: SDA16A; Publisher: Altium Limited; PackageDescription: LLP, Plastic, Dual, 5 x 5 x 0.8mm Body,16 Lead, 0.5mm Pitch, No Pullback; Supplier 1: Digi-Key; Supplier Part Number 1: LM5070SD-50TR-ND; Supplier 2: Digi-Key; Supplier Part Number 2: LM5070SD-50CT-ND; Supplier 3: Digi-Key; Supplier Part Number 3: LM5070SD-50DKR-ND; RoHS: Y; PinCount: 16; ComponentLink1Description: LM5070 Datasheet; ComponentLink1URL: http://www.national.com/ds/LM/LM5070.pdf; ComponentLink2Description: LM5070 Web Page; ComponentLink2URL: http://www.national.com/pf/LM/LM5070.html; ComponentLink3Description: SDA16A Package Page; ComponentLink3URL: http://www.national.com/packaging/folders/sda16a.html
footprint SDA16A (SON, 16-Leads, Body 5x5mm, Pitch 0.5mm, NSC Recommended)
pins: 1 VIN (power) "System high potential input.", 2 RSIG "Signature resistor pin.", 3 RCLASS (in) "Classification resistor pin.", 4 UVLO (in) "Line under-voltage lockout.", 5 UVLORTN (in) "Return for the external UVLO resistors.", 6 RCLP (in) "Current limit programming pin.", 7 VEE (power) "System low potential input.", 8 RTN (power) "System return for the PWM converter.", 9 OUT (out) "Output of the PWM controller.", 10 VCC (power) "Output of the internal high voltage series pass regulator. Regulated output voltage is nominally 7.8V.", 11 FB (in) "Feedback signal.", 12 COMP (out) "The output of the error amplifier and input to the Pulse Width Modulator.", 13 CS (in) "Current sense input.", 14 RT/SYNC (in) "Oscillator timing resistor pin and synchronization input.", 15 SS (in) "Soft-start input.", 16 ARTN (power) "Analog PWM supply return.", 17 EP (power) "Exposed PAD, underside of the LLP package option."

## LM5070SD-80
designator U?
Integrated Power Over Ethernet PD Interface and PWM Controller, 16-pin LLP; PartNumber: LM5070SD-80; Manufacturer: National Semiconductor; PackageTopMarking: NS*UZXYTT*L00052B; PowerWise: Y; CompType: MiscPower; Published: 4-Dec-2008; DatasheetVersion: Apr-2006; PackageVersion: revA, May-2003; PackageReference: SDA16A; Publisher: Altium Limited; PackageDescription: LLP, Plastic, Dual, 5 x 5 x 0.8mm Body,16 Lead, 0.5mm Pitch, No Pullback; RoHS: N; PinCount: 16; ComponentLink1Description: LM5070 Datasheet; ComponentLink1URL: http://www.national.com/ds/LM/LM5070.pdf; ComponentLink2Description: LM5070 Web Page; ComponentLink2URL: http://www.national.com/pf/LM/LM5070.html; ComponentLink3Description: SDA16A Package Page; ComponentLink3URL: http://www.national.com/packaging/folders/sda16a.html
footprint SDA16A (SON, 16-Leads, Body 5x5mm, Pitch 0.5mm, NSC Recommended)
pins: 1 VIN (power) "System high potential input.", 2 RSIG "Signature resistor pin.", 3 RCLASS (in) "Classification resistor pin.", 4 UVLO (in) "Line under-voltage lockout.", 5 UVLORTN (in) "Return for the external UVLO resistors.", 6 RCLP (in) "Current limit programming pin.", 7 VEE (power) "System low potential input.", 8 RTN (power) "System return for the PWM converter.", 9 OUT (out) "Output of the PWM controller.", 10 VCC (power) "Output of the internal high voltage series pass regulator. Regulated output voltage is nominally 7.8V.", 11 FB (in) "Feedback signal.", 12 COMP (out) "The output of the error amplifier and input to the Pulse Width Modulator.", 13 CS (in) "Current sense input.", 14 RT/SYNC (in) "Oscillator timing resistor pin and synchronization input.", 15 SS (in) "Soft-start input.", 16 ARTN (power) "Analog PWM supply return.", 17 EP (power) "Exposed PAD, underside of the LLP package option."

## LM5070SD-80/NOPB
designator U?
Integrated Power Over Ethernet PD Interface and PWM Controller, 16-pin LLP, Pb-Free; PartNumber: LM5070SD-80/NOPB; Manufacturer: National Semiconductor; PackageTopMarking: NS*UZXYTT*L00052B; PowerWise: Y; CompType: MiscPower; Published: 1-Mar-2010; DatasheetVersion: Apr-2006; PackageVersion: revA, May-2003; PackageReference: SDA16A; Publisher: Altium Limited; PackageDescription: LLP, Plastic, Dual, 5 x 5 x 0.8mm Body,16 Lead, 0.5mm Pitch, No Pullback; Supplier 1: Digi-Key; Supplier Part Number 1: LM5070SD-80TR-ND; Supplier 2: Digi-Key; Supplier Part Number 2: LM5070SD-80CT-ND; Supplier 3: Digi-Key; Supplier Part Number 3: LM5070SD-80DKR-ND; RoHS: Y; PinCount: 16; ComponentLink1Description: LM5070 Datasheet; ComponentLink1URL: http://www.national.com/ds/LM/LM5070.pdf; ComponentLink2Description: LM5070 Web Page; ComponentLink2URL: http://www.national.com/pf/LM/LM5070.html; ComponentLink3Description: SDA16A Package Page; ComponentLink3URL: http://www.national.com/packaging/folders/sda16a.html
footprint SDA16A (SON, 16-Leads, Body 5x5mm, Pitch 0.5mm, NSC Recommended)
pins: 1 VIN (power) "System high potential input.", 2 RSIG "Signature resistor pin.", 3 RCLASS (in) "Classification resistor pin.", 4 UVLO (in) "Line under-voltage lockout.", 5 UVLORTN (in) "Return for the external UVLO resistors.", 6 RCLP (in) "Current limit programming pin.", 7 VEE (power) "System low potential input.", 8 RTN (power) "System return for the PWM converter.", 9 OUT (out) "Output of the PWM controller.", 10 VCC (power) "Output of the internal high voltage series pass regulator. Regulated output voltage is nominally 7.8V.", 11 FB (in) "Feedback signal.", 12 COMP (out) "The output of the error amplifier and input to the Pulse Width Modulator.", 13 CS (in) "Current sense input.", 14 RT/SYNC (in) "Oscillator timing resistor pin and synchronization input.", 15 SS (in) "Soft-start input.", 16 ARTN (power) "Analog PWM supply return.", 17 EP (power) "Exposed PAD, underside of the LLP package option."

## LM5070SDX-50
designator U?
Integrated Power Over Ethernet PD Interface and PWM Controller, 16-pin LLP; PartNumber: LM5070SDX-50; Manufacturer: National Semiconductor; PackageTopMarking: NS*UZXYTT*L00051B; PowerWise: Y; CompType: MiscPower; Published: 1-Mar-2010; DatasheetVersion: Apr-2006; PackageVersion: revA, May-2003; PackageReference: SDA16A; Publisher: Altium Limited; PackageDescription: LLP, Plastic, Dual, 5 x 5 x 0.8mm Body,16 Lead, 0.5mm Pitch, No Pullback; RoHS: N; PinCount: 16; ComponentLink1Description: LM5070 Datasheet; ComponentLink1URL: http://www.national.com/ds/LM/LM5070.pdf; ComponentLink2Description: LM5070 Web Page; ComponentLink2URL: http://www.national.com/pf/LM/LM5070.html; ComponentLink3Description: SDA16A Package Page; ComponentLink3URL: http://www.national.com/packaging/folders/sda16a.html
footprint SDA16A (SON, 16-Leads, Body 5x5mm, Pitch 0.5mm, NSC Recommended)
pins: 1 VIN (power) "System high potential input.", 2 RSIG "Signature resistor pin.", 3 RCLASS (in) "Classification resistor pin.", 4 UVLO (in) "Line under-voltage lockout.", 5 UVLORTN (in) "Return for the external UVLO resistors.", 6 RCLP (in) "Current limit programming pin.", 7 VEE (power) "System low potential input.", 8 RTN (power) "System return for the PWM converter.", 9 OUT (out) "Output of the PWM controller.", 10 VCC (power) "Output of the internal high voltage series pass regulator. Regulated output voltage is nominally 7.8V.", 11 FB (in) "Feedback signal.", 12 COMP (out) "The output of the error amplifier and input to the Pulse Width Modulator.", 13 CS (in) "Current sense input.", 14 RT/SYNC (in) "Oscillator timing resistor pin and synchronization input.", 15 SS (in) "Soft-start input.", 16 ARTN (power) "Analog PWM supply return.", 17 EP (power) "Exposed PAD, underside of the LLP package option."

## LM5070SDX-80
designator U?
Integrated Power Over Ethernet PD Interface and PWM Controller, 16-pin LLP; PartNumber: LM5070SDX-80; Manufacturer: National Semiconductor; PackageTopMarking: NS*UZXYTT*L00052B; PowerWise: Y; CompType: MiscPower; Published: 1-Mar-2010; DatasheetVersion: Apr-2006; PackageVersion: revA, May-2003; PackageReference: SDA16A; Publisher: Altium Limited; PackageDescription: LLP, Plastic, Dual, 5 x 5 x 0.8mm Body,16 Lead, 0.5mm Pitch, No Pullback; RoHS: N; PinCount: 16; ComponentLink1Description: LM5070 Datasheet; ComponentLink1URL: http://www.national.com/ds/LM/LM5070.pdf; ComponentLink2Description: LM5070 Web Page; ComponentLink2URL: http://www.national.com/pf/LM/LM5070.html; ComponentLink3Description: SDA16A Package Page; ComponentLink3URL: http://www.national.com/packaging/folders/sda16a.html
footprint SDA16A (SON, 16-Leads, Body 5x5mm, Pitch 0.5mm, NSC Recommended)
pins: 1 VIN (power) "System high potential input.", 2 RSIG "Signature resistor pin.", 3 RCLASS (in) "Classification resistor pin.", 4 UVLO (in) "Line under-voltage lockout.", 5 UVLORTN (in) "Return for the external UVLO resistors.", 6 RCLP (in) "Current limit programming pin.", 7 VEE (power) "System low potential input.", 8 RTN (power) "System return for the PWM converter.", 9 OUT (out) "Output of the PWM controller.", 10 VCC (power) "Output of the internal high voltage series pass regulator. Regulated output voltage is nominally 7.8V.", 11 FB (in) "Feedback signal.", 12 COMP (out) "The output of the error amplifier and input to the Pulse Width Modulator.", 13 CS (in) "Current sense input.", 14 RT/SYNC (in) "Oscillator timing resistor pin and synchronization input.", 15 SS (in) "Soft-start input.", 16 ARTN (power) "Analog PWM supply return.", 17 EP (power) "Exposed PAD, underside of the LLP package option."

## LM5071MT-50/NOPB
designator U?
Power Over Ethernet PD Controller with Auxiliary Power Interface, 16-pin TSSOP, Pb-Free; PartNumber: LM5071MT-50/NOPB; Manufacturer: National Semiconductor; PackageTopMarking: NSUZXYTT*5071MT*-50; PowerWise: Y; CompType: MiscPower; Published: 1-Mar-2010; DatasheetVersion: Apr-2006; PackageVersion: revD, Jun-2003; PackageReference: MTC16; Publisher: Altium Limited; PackageDescription: Molded TSSOP, Jedec, 5 x 4.4 x 0.9mm Body, 16 Lead, 0.65mm Pitch; Supplier 1: Digi-Key; Supplier Part Number 1: LM5071MT-50-ND; Supplier 2: Farnell; Supplier Part Number 2: 1694628; RoHS: Y; PinCount: 16; Code_JEDEC: MO-153-AB; ComponentLink1Description: LM5071 Datasheet; ComponentLink1URL: http://www.national.com/ds/LM/LM5071.pdf; ComponentLink2Description: LM5071 Web Page; ComponentLink2URL: http://www.national.com/pf/LM/LM5071.html; ComponentLink3Description: MTC16 Package Page; ComponentLink3URL: http://www.national.com/packaging/folders/mtc16.html
footprint MTC16_N (TSOP, 16-Leads, Body 5x4.4mm, Pitch 0.65mm, IPC Medium Density)
footprint MTC16_L (TSOP, 16-Leads, Body 5x4.4mm, Pitch 0.65mm, IPC High Density)
footprint MTC16_M (TSOP, 16-Leads, Body 5x4.4mm, Pitch 0.65mm, IPC Low Density)
pins: 1 VIN (power) "System high potential input.", 2 RSIG "Signature resistor pin.", 3 RCLASS (in) "Classification resistor pin.", 4 AUX (in) "Auxiliary input power startup pin.", 5 UVLO (in) "Line under-voltage lockout.", 6 UVLORTN (in) "Return for the external UVLO resistors.", 7 VEE (power) "System low potential input.", 8 RTN (power) "System return for the PWM converter.", 9 OUT (out) "Output of the PWM controller.", 10 VCC (power) "Output of the internal high voltage series pass regulator. Regulated output voltage is nominally 7.8V.", 11 FB (in) "Feedback signal.", 12 COMP (out) "The output of the error amplifier and input to the Pulse Width Modulator.", 13 CS (in) "Current sense input.", 14 RT/SYNC (in) "Oscillator timing resistor pin and synchronization input.", 15 SS (in) "Soft-start input.", 16 ARTN (power) "Analog PWM supply return."

## LM5071MT-80
designator U?
Power Over Ethernet PD Controller with Auxiliary Power Interface, 16-pin TSSOP; PartNumber: LM5071MT-80; Manufacturer: National Semiconductor; PackageTopMarking: NSUZXYTT*5071MT*-80; PowerWise: Y; CompType: MiscPower; Published: 4-Dec-2008; DatasheetVersion: Apr-2006; PackageVersion: revD, Jun-2003; PackageReference: MTC16; Publisher: Altium Limited; PackageDescription: Molded TSSOP, Jedec, 5 x 4.4 x 0.9mm Body, 16 Lead, 0.65mm Pitch; RoHS: N; PinCount: 16; Code_JEDEC: MO-153-AB; ComponentLink1Description: LM5071 Datasheet; ComponentLink1URL: http://www.national.com/ds/LM/LM5071.pdf; ComponentLink2Description: LM5071 Web Page; ComponentLink2URL: http://www.national.com/pf/LM/LM5071.html; ComponentLink3Description: MTC16 Package Page; ComponentLink3URL: http://www.national.com/packaging/folders/mtc16.html
footprint MTC16_N (TSOP, 16-Leads, Body 5x4.4mm, Pitch 0.65mm, IPC Medium Density)
footprint MTC16_L (TSOP, 16-Leads, Body 5x4.4mm, Pitch 0.65mm, IPC High Density)
footprint MTC16_M (TSOP, 16-Leads, Body 5x4.4mm, Pitch 0.65mm, IPC Low Density)
pins: 1 VIN (power) "System high potential input.", 2 RSIG "Signature resistor pin.", 3 RCLASS (in) "Classification resistor pin.", 4 AUX (in) "Auxiliary input power startup pin.", 5 UVLO (in) "Line under-voltage lockout.", 6 UVLORTN (in) "Return for the external UVLO resistors.", 7 VEE (power) "System low potential input.", 8 RTN (power) "System return for the PWM converter.", 9 OUT (out) "Output of the PWM controller.", 10 VCC (power) "Output of the internal high voltage series pass regulator. Regulated output voltage is nominally 7.8V.", 11 FB (in) "Feedback signal.", 12 COMP (out) "The output of the error amplifier and input to the Pulse Width Modulator.", 13 CS (in) "Current sense input.", 14 RT/SYNC (in) "Oscillator timing resistor pin and synchronization input.", 15 SS (in) "Soft-start input.", 16 ARTN (power) "Analog PWM supply return."

## LM5071MT-80/NOPB
designator U?
Power Over Ethernet PD Controller with Auxiliary Power Interface, 16-pin TSSOP, Pb-Free; PartNumber: LM5071MT-80/NOPB; Manufacturer: National Semiconductor; PackageTopMarking: NSUZXYTT*5071MT*-80; PowerWise: Y; CompType: MiscPower; Published: 1-Mar-2010; DatasheetVersion: Apr-2006; PackageVersion: revD, Jun-2003; PackageReference: MTC16; Publisher: Altium Limited; PackageDescription: Molded TSSOP, Jedec, 5 x 4.4 x 0.9mm Body, 16 Lead, 0.65mm Pitch; Supplier 1: Digi-Key; Supplier Part Number 1: LM5071MT-80-ND; Supplier 2: Farnell; Supplier Part Number 2: 1685768; RoHS: Y; PinCount: 16; Code_JEDEC: MO-153-AB; ComponentLink1Description: LM5071 Datasheet; ComponentLink1URL: http://www.national.com/ds/LM/LM5071.pdf; ComponentLink2Description: LM5071 Web Page; ComponentLink2URL: http://www.national.com/pf/LM/LM5071.html; ComponentLink3Description: MTC16 Package Page; ComponentLink3URL: http://www.national.com/packaging/folders/mtc16.html
footprint MTC16_N (TSOP, 16-Leads, Body 5x4.4mm, Pitch 0.65mm, IPC Medium Density)
footprint MTC16_L (TSOP, 16-Leads, Body 5x4.4mm, Pitch 0.65mm, IPC High Density)
footprint MTC16_M (TSOP, 16-Leads, Body 5x4.4mm, Pitch 0.65mm, IPC Low Density)
pins: 1 VIN (power) "System high potential input.", 2 RSIG "Signature resistor pin.", 3 RCLASS (in) "Classification resistor pin.", 4 AUX (in) "Auxiliary input power startup pin.", 5 UVLO (in) "Line under-voltage lockout.", 6 UVLORTN (in) "Return for the external UVLO resistors.", 7 VEE (power) "System low potential input.", 8 RTN (power) "System return for the PWM converter.", 9 OUT (out) "Output of the PWM controller.", 10 VCC (power) "Output of the internal high voltage series pass regulator. Regulated output voltage is nominally 7.8V.", 11 FB (in) "Feedback signal.", 12 COMP (out) "The output of the error amplifier and input to the Pulse Width Modulator.", 13 CS (in) "Current sense input.", 14 RT/SYNC (in) "Oscillator timing resistor pin and synchronization input.", 15 SS (in) "Soft-start input.", 16 ARTN (power) "Analog PWM supply return."